# Altium schematic symbol library MCP4131.SchLib: 2 symbols
Pins are listed as number, name and electrical type; pins without a type are passive.

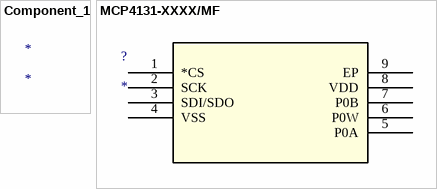
[diagram p0: symbols Component_1 to MCP4131-XXXX/MF]

## Component_1
designator *

## MCP4131-XXXX/MF
designator ?
No Description Available; Copyright: Copyright (C) 2018 Accelerated Designs. All rights reserved; RefDes: RefDes; Type: DEV; Value: Value
footprint DFN8_3x3MC
pins: 1 *CS, 2 SCK, 3 SDI/SDO, 4 VSS, 5 P0A, 6 P0W, 7 P0B, 8 VDD, 9 EP